# EAGLE library part LSM6DS33 (library SE423EagleLibrary)
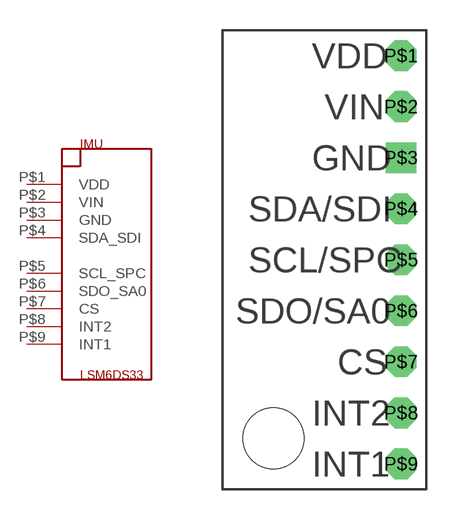
[diagram p5: symbol with the pads of LSM6DS33; footprint LSM6DS33]

Designator prefix IMU

## LSM6DS33  [LSM6DS33]
P$1  VDD
P$2  VIN
P$3  GND
P$4  SDA_SDI
P$5  SCL_SPC
P$6  SDO_SA0
P$7  CS
P$8  INT2
P$9  INT1

## Footprint LSM6DS33 (pad centres in mm)
drill 1.016 octagon: P$1 0,5.08; P$2 0,2.54; P$4 0,-2.54; P$5 0,-5.08; P$6 0,-7.62; P$7 0,-10.16; P$8 0,-12.7; P$9 0,-15.24
drill 1.016 square: P$3 0,0
hole 3.048 at -6.35,-13.97